# Altium schematic symbol library Arturo_PCB.SchLib: 6 symbols
Pins are listed as number, name and electrical type; pins without a type are passive.

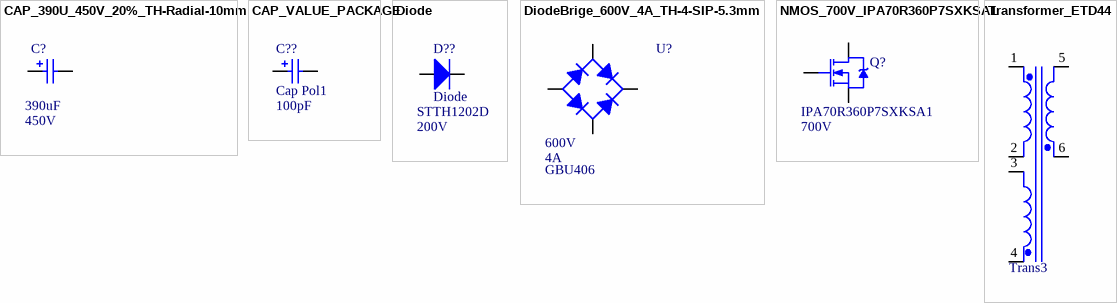
[diagram p0: symbols CAP_390U_450V_20%_TH-Radial-10mm to Transformer_ETD44]

## CAP_390U_450V_20%_TH-Radial-10mm
designator C?  value 390uF  Voltage_Max: 450V  (hidden comment: *)
Polarized Capacitor (Radial) 390UF, 450V, 20% TH Radial 10m Pitch; Part_Number: LLS2W391MELC; Irms_Max: 2.38A @ 120Hz; JLC#: ?
footprint CAP_TH_Radial_10mmP_40mmH
pins: 1, 2
1 alternate drawing of the same symbol

## CAP_VALUE_PACKAGE
designator C??, comment Cap Pol1  value 100pF
Polarized Capacitor (Radial); Published: 8-Jun-2000; LatestRevisionDate: 17-Jul-2002; LatestRevisionNote: Re-released for DXP Platform.; PackageReference: RB7.6-15; Publisher: Altium Limited; PackageDescription: Polarized Capacitor (Radial); 2 Leads
footprint RB7.6-15 (Polarized Capacitor (Radial); 2 Leads)
simulation model CAP (Capacitor)
signal-integrity model Cap Pol
pins: 1, 2
1 alternate drawing of the same symbol

## Diode
designator D??  Vr_Max: 200V  Part_Number: STTH1202D
Default Diode; Tj_Max: 175deg; Rth(j-c): 2.5K/W; Vf_Max: 1.15V; JLC#: ?; Package: T0-220-2; Parameter 1: *
pins: 1 A, 2 K

## DiodeBrige_600V_4A_TH-4-SIP-5.3mm
designator U?  Part_Number: GBU406  I_MAX: 4A  V_Max: 600V  (hidden comment: *)
Full Wave Diode Bridge, 600V, 4A.; Package: 4-SIP (5.3mm picth); JLC#: ?
footprint 4_SIP
pins: 1 +, 2 AC, 3 AC, 4 -

## NMOS_700V_IPA70R360P7SXKSA1
designator Q?  Vds_Max: 700V  Part_Number: IPA70R360P7SXKSA1  (hidden comment: *)
N-Channel Power MOSFET, 700Vds, T0-220-3; Rds(on)_Max: 0.36R; RthJC: 4.7K/W; Tj_Max: 150deg; ComponentLink1Description: Manufacturer Link; ComponentLink1URL: http://www.irf.com/; JLC#: ?
footprint T0-220-3
pins: 1 G, 2 D, 3 S

## Transformer_ETD44
designator ?, comment Trans3
Flyback converter transformer ETD44, 2 output winding, 1 input winding.
footprint ETD44
pins: 1 Pri_1, 2 Pri_2, 3 Pri_3, 4 Pri_4, 5 Sec_5, 6 Sec_6